# Altium footprint library TE 2-215308-0.PcbLib: 1 footprints
Each footprint in its own frame and in the unit in brackets; x right, y up, seen from the top. Pads: shape width x height; smd on the part's side, far side on the other; paste and mask are expansions set on the pad; w line width, h text height; cw(c..) or ccw(c..) is an arc to the next point about the centre after c.
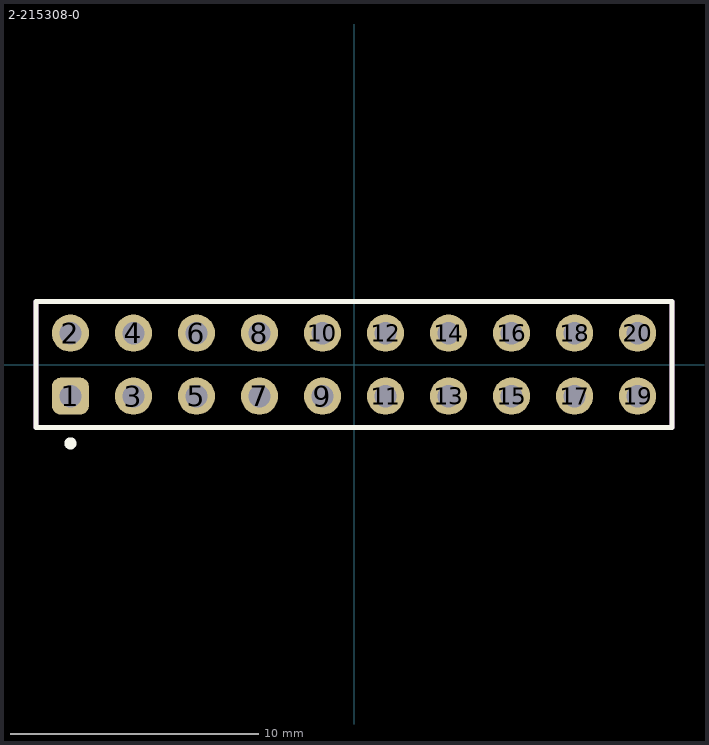
[diagram p0: the footprint, top view; thin cyan lines are the x and y axes]

## 2-215308-0 [mm] "TE Connectivity / AMP  2-215308-0"
height 7
pads (20):
  rrect50% 1.5x1.5 hole 0.9: 1(-11.43,-1.27)
  round 1.5 hole 0.9: 2(-11.43,1.27) 3(-8.89,-1.27) 4(-8.89,1.27) 5(-6.35,-1.27) 6(-6.35,1.27) 7(-3.81,-1.27) 8(-3.81,1.27) 9(-1.27,-1.27) 10(-1.27,1.27) 11(1.27,-1.27) 12(1.27,1.27) 13(3.81,-1.27) 14(3.81,1.27) 15(6.35,-1.27) 16(6.35,1.27) 17(8.89,-1.27) 18(8.89,1.27) 19(11.43,-1.27) 20(11.43,1.27)
Top Overlay:
  circle w0.254: c-11.43,-3.175 r0.12
  lines w0.2: -12.825,-2.54 -12.825,2.54 12.825,2.54 12.825,-2.54 -12.825,-2.54
Top Assembly:
  lines w0.2: -12.825,-2.54 -12.825,2.54 12.825,2.54 12.825,-2.54 -12.825,-2.54
Top 3D Body:
  lines w0.2: -12.825,-2.54 -12.825,2.54 12.825,2.54 12.825,-2.54 -12.825,-2.54
3D body "female_header_a-bl254-dg-g20d.stp": height 8.5, standoff -3.2, extent -12.825,-2.5 12.825,2.5